# Altium footprint library 15910060.PcbLib: 1 footprints
Each footprint in its own frame and in the unit in brackets; x right, y up, seen from the top. Pads: shape width x height; smd on the part's side, far side on the other; paste and mask are expansions set on the pad; w line width, h text height; cw(c..) or ccw(c..) is an arc to the next point about the centre after c.
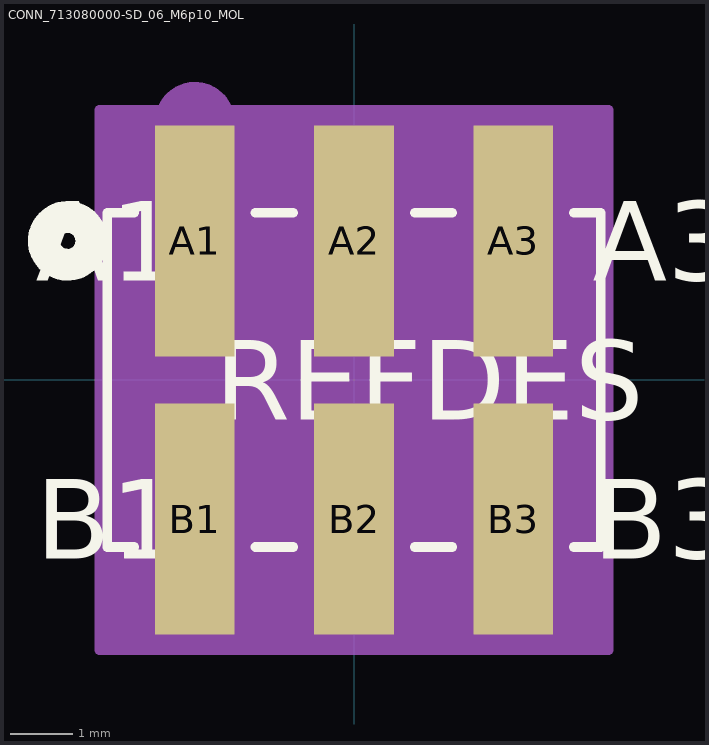
[diagram p0: the footprint, top view; thin cyan lines are the x and y axes]

## CONN_713080000-SD_06_M6p10_MOL [mil]
pads (6):
  rect 50x145 smd paste+0 mask+0: A1(-100,87.4) A2(0,87.4) A3(100,87.4) B1(-100,-87.4) B2(0,-87.4) B3(100,-87.4)
Top Overlay:
  circle w20: c-180,87.4 r15
  lines w6: -138.1,-105 -155,-105 -155,105 -138.1,105 ; -61.9,-105 -38.1,-105 ; -61.9,105 -38.1,105 ; 38.1,-105 61.9,-105 ; 38.1,105 61.9,105 ; 138.1,-105 155,-105 155,105 138.1,105
  text "A1" at -200,62.4 h50
  text "B1" at -200,-112.4 h50
  text "A3" at 150,62.4 h50
  text "B3" at 150,-112.4 h50
  text "REFDES" at -87.5,-25 h50
Bottom Overlay:
  circle w20: c-180,87.4 r15
  text "A1" at -150,62.4 h50
  text "B1" at -150,-112.4 h50
  text "A3" at 200,62.4 h50
  text "B3" at 200,-112.4 h50
Mechanical 13:
  circle w20: c-100,162.4 r15
  lines w1: -150,-100 150,-100 150,100 -150,100 -150,-100
  text "A1" at -200,62.4 h50
  text "B1" at -200,-112.4 h50
  text "A3" at 150,62.4 h50
  text "B3" at 150,-112.4 h50
  text "RefDes2" at -87.5,-25 h50
Mechanical 15:
  region: 160,169.9 -160,169.9 -160,-169.9 160,-169.9
  region: 150,159.9 -150,159.9 -150,-159.9 150,-159.9
  lines w6: -160,-169.9 -160,169.9 160,169.9 160,-169.9 -160,-169.9